# EAGLE library part NJM2670 (library NJM2670)
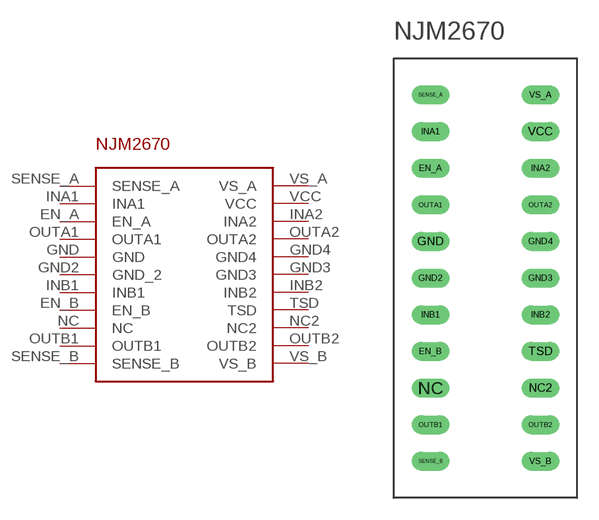
[diagram p0: symbol with the pads of NJM2670; footprint NJM2670]

Designator prefix -

## NJM2670  [NJM2670]
EN_A  EN_A
EN_B  EN_B
GND  GND
GND2  GND_2
GND3  GND3
GND4  GND4
INA1  INA1
INA2  INA2
INB1  INB1
INB2  INB2
NC  NC
NC2  NC2
OUTA1  OUTA1
OUTA2  OUTA2
OUTB1  OUTB1
OUTB2  OUTB2
SENSE_A  SENSE_A
SENSE_B  SENSE_B
TSD  TSD
VCC  VCC
VS_A  VS_A
VS_B  VS_B

## Footprint NJM2670 (pad centres in mm)
drill 0.8 long: EN_A -3.81,7.62; EN_B -3.81,-5.08; GND -3.81,2.54; GND2 -3.81,0; GND3 3.81,0; GND4 3.81,2.54; INA1 -3.81,10.16; INA2 3.81,7.62; INB1 -3.81,-2.54; INB2 3.81,-2.54; NC -3.81,-7.62; NC2 3.81,-7.62; OUTA1 -3.81,5.08; OUTA2 3.81,5.08; OUTB1 -3.81,-10.16; OUTB2 3.81,-10.16; SENSE_A -3.81,12.7; SENSE_B -3.81,-12.7; TSD 3.81,-5.08; VCC 3.81,10.16; VS_A 3.81,12.7; VS_B 3.81,-12.7